# Altium schematic symbol library SchLib_Main.SchLib: 425 symbols (part 7 of 11)
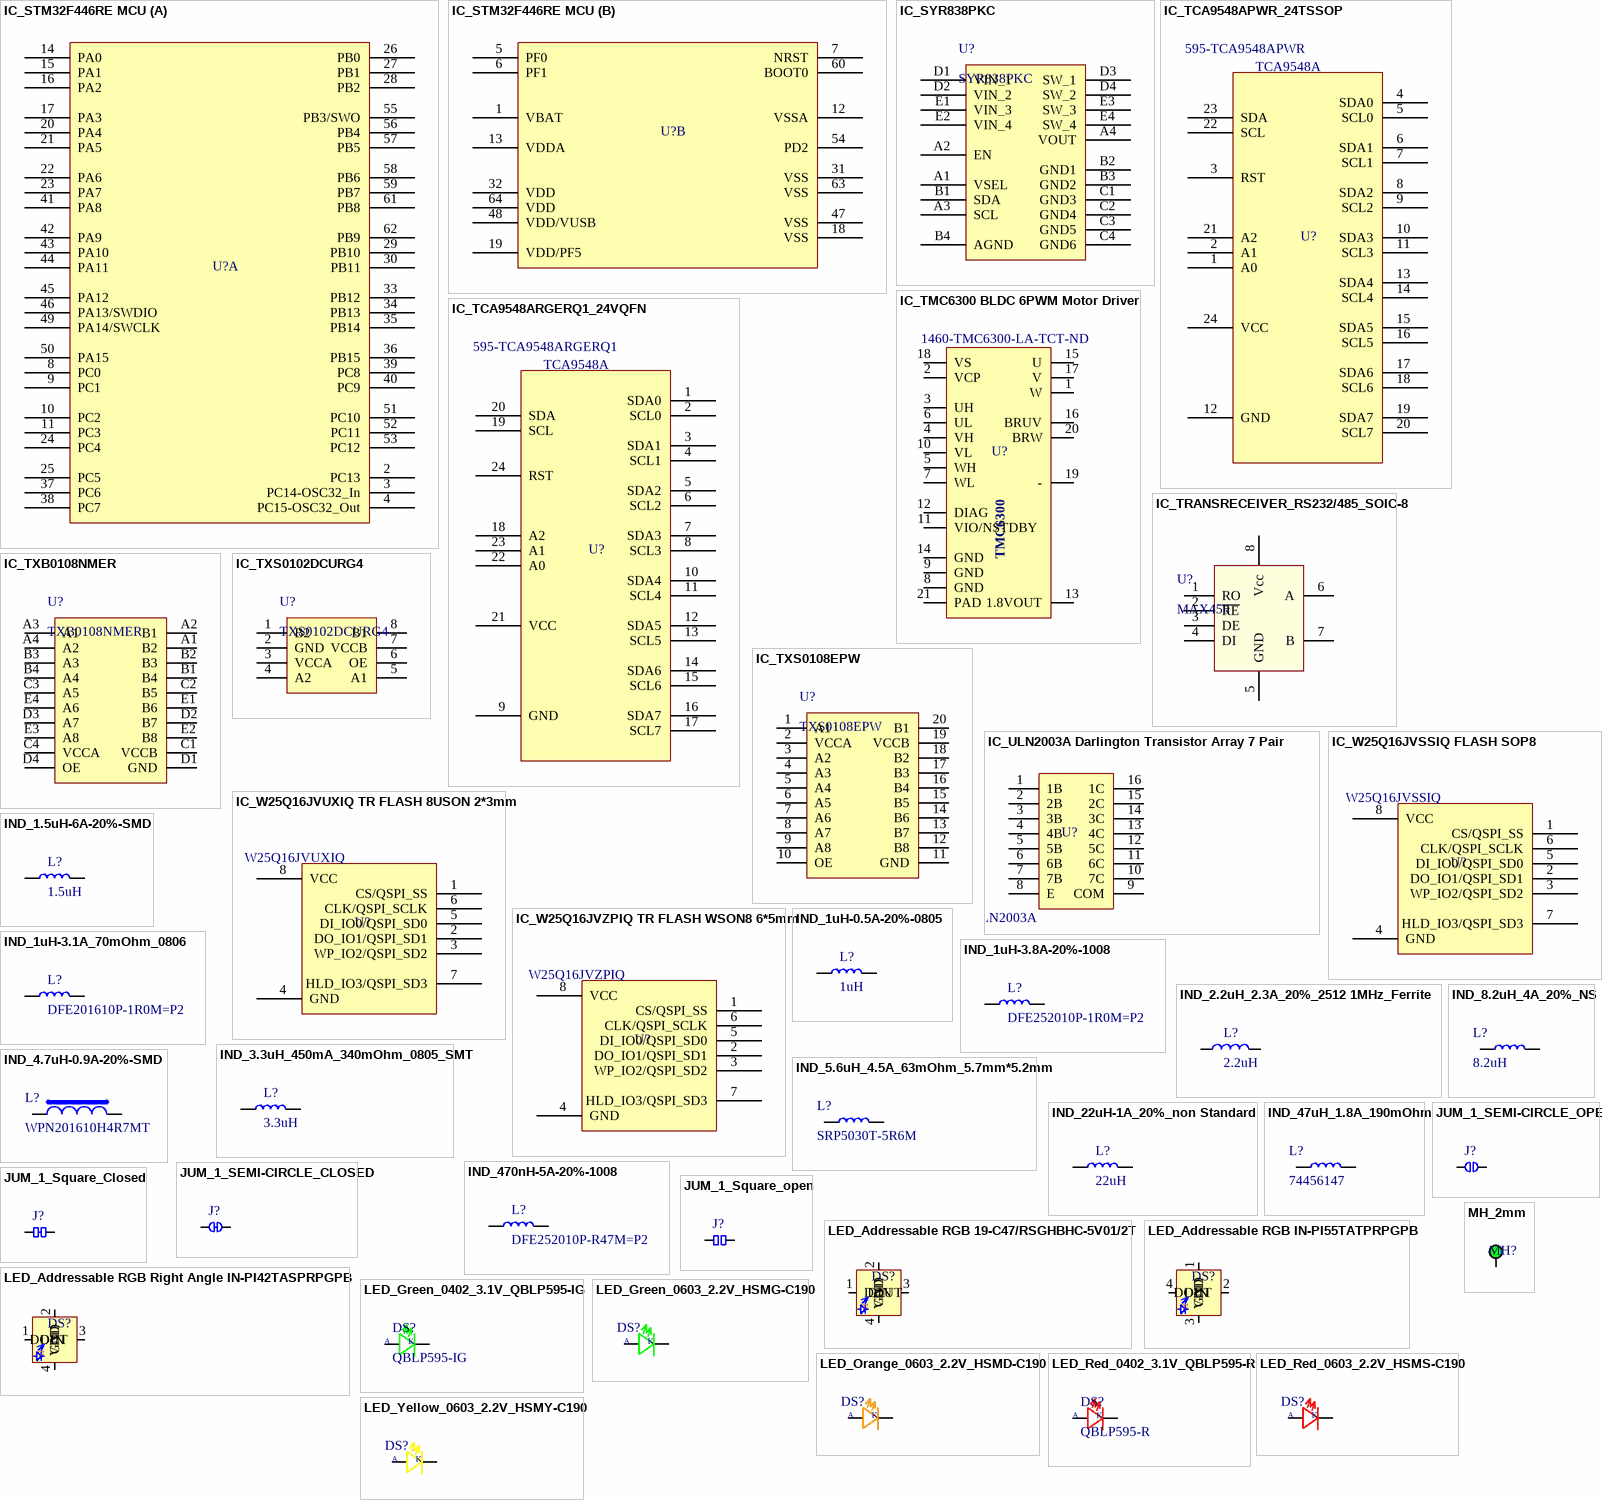
[diagram p22: symbols IC_STM32F446RE MCU to MH_2mm]

## IND_5.6uH_4.5A_63mOhm_5.7mm*5.2mm
designator L?, comment SRP5030T-5R6M
General Purpose Inductor, 5.6uH, 20%, 1 Element, Powdered Iron-Core, SMD, 2220; Manufacturer: Bourns; Core Material: Ferrite; DC Resistance (DCR): 63mR; Inductor Application: POWER INDUCTOR; Channels: 1; Max Current Rating: 4.25A; Shape/Size Description: RECTANGULAR PACKAGE; Shielding: Shielded; Test Frequency: 100kHz; Supplier: Digikey; Supplier Part Number: SRP5030T-5R6MCT-ND; Manufacturer Part Number: SRP5030T-5R6M; RoHS: Yes; Category: Fixed Inductors; Stock: 3265; Pricing: 1=1.36, 10=1.15, 25=1.0452, 50=0.9826, 100=0.8154, 250=0.75264, 500=0.71084, 1000=0.64812 (USD); Pins: 2; Terminal Finish: Tin; Min Operating Temperature: -40°C; Max Operating Temperature: 125°C; Tolerance: 20%; JESD-609 Code: e3; Inductance-Nom (L): 5.6uH; Inductor Type: GENERAL PURPOSE INDUCTOR; Surface Mount: Yes; Terminal Placement: Dual Ended; Termination: Wraparound; Reach SVHC Compliant: Yes; RoHS Compliant: Yes; ComponentLink1URL: https://datasheet.ciiva.com:443/pdfs/VipMasterIC/IC/BOUR/BOUR-S-A0006601856/BOUR-S-A0006601856-1.pdf?src-supplier=IHS+Markit; ComponentLink1Description: https://datasheet.ciiva.com:443/pdfs/VipMasterIC/IC/BOUR/BOUR-S-A0006601856/BOUR-S-A0006601856-1.pdf?src-supplier=IHS+Markit; ComponentLink2URL: https://datasheet.ciiva.com/17071/70281523-17071295.pdf?src-supplier=Allied+Electronics; ComponentLink2Description: https://datasheet.ciiva.com/17071/70281523-17071295.pdf?src-supplier=Allied+Electronics; ComponentLink3URL: https://datasheet.ciiva.com/28678/1698469-28678287.pdf?src-supplier=Element14; ComponentLink3Description: https://datasheet.ciiva.com/28678/1698469-28678287.pdf?src-supplier=Element14
footprint IND_6mm*6mm (SRP5030T-5R6M)
pins: 1, 2 1

## IND_8.2uH_4A_20%_NS
designator L?, comment 8.2uH
General Purpose Inductor, 8.2uH, 20%, 1 Element, Composite-Core, SMD, 2525; Manufacturer: Vishay Dale; Manufacturer Part Number: IHLP2525CZER8R2M01; Case/Size Code: 2525; DC Resistance (DCR): 68mR; Inductor Application: HIGH CURRENT INDUCTOR; Channels: 1; Max Current Rating: 4A; Shape/Size Description: RECTANGULAR PACKAGE; Shielding: Shielded; Test Frequency: 100kHz; Package Height: 3mm; Package Length: 6.86mm; Package Width: 6.47mm; Supplier: Digi-Key; Supplier Part Number: 541-1012-1-ND; RoHS: Yes; Category: Fixed Inductors; Stock: 34091; Pricing: 1=1.05, 10=0.887, 25=0.8064, 50=0.758, 100=0.6289, 250=0.58056, 500=0.5483, 1000=0.49991 (USD); Pins: 2; Core Material: Composite; Terminal Finish: Nickel; Min Operating Temperature: -55°C; Max Operating Temperature: 125°C; Tolerance: 20%; JESD-609 Code: e3; Construction: Shielded; Inductance-Nom (L): 8.2uH; Inductor Type: GENERAL PURPOSE INDUCTOR; Package Style: SMTMeter; Packaging: Tape and Reel; Surface Mount: Yes; Terminal Placement: Dual Ended; Termination: Wraparound; Reach SVHC Compliant: Yes; RoHS Compliant: Yes; ComponentLink1URL: https://datasheet.ciiva.com:443/pdfs/VipMasterIC/IC/VISH/VISH-S-A0003500153/VISH-S-A0003500153-1.pdf?src-supplier=IHS+Markit; ComponentLink1Description: https://datasheet.ciiva.com:443/pdfs/VipMasterIC/IC/VISH/VISH-S-A0003500153/VISH-S-A0003500153-1.pdf?src-supplier=IHS+Markit; ComponentLink2URL: https://datasheet.ciiva.com/11798/0900766b8102c934-11798421.pdf?src-supplier=Rs; ComponentLink2Description: https://datasheet.ciiva.com/11798/0900766b8102c934-11798421.pdf?src-supplier=Rs; ComponentLink3URL: https://datasheet.ciiva.com/3081/lp25cz01-3081990.pdf?src-supplier=Avnet; ComponentLink3Description: https://datasheet.ciiva.com/3081/lp25cz01-3081990.pdf?src-supplier=Avnet; ComponentLink4URL: https://datasheet.ciiva.com/16348/lp25cz01-16348924.pdf?src-supplier=Future+Electronics; ComponentLink4Description: https://datasheet.ciiva.com/16348/lp25cz01-16348924.pdf?src-supplier=Future+Electronics; ComponentLink5URL: https://datasheet.ciiva.com/8017/lp25cz01-8017605.pdf?src-supplier=Element14; ComponentLink5Description: https://datasheet.ciiva.com/8017/lp25cz01-8017605.pdf?src-supplier=Element14; ComponentLink6URL: https://datasheet.ciiva.com/46393/1913191-46393003.pdf?src-supplier=Element14; ComponentLink6Description: https://datasheet.ciiva.com/46393/1913191-46393003.pdf?src-supplier=Element14
pins: 1, 2 1

## IND_22uH-1A_20%_non Standard
designator L?, comment 22uH
General Purpose Inductor, 22uH, 20%, 1 Element, Nickel-zinc Ferrite-Core, SMD, 1816; Manufacturer: Wurth Electronics; Manufacturer Part Number: 744773122; Supplier 1: Rs; RoHS: Yes; Category: Fixed Inductors; Stock 1: 1; ComponentLink1URL: https://datasheet.ciiva.com/6700/744773122-6700341.pdf?src-supplier=Digi-Key; ComponentLink1Description: https://datasheet.ciiva.com/6700/744773122-6700341.pdf?src-supplier=Digi-Key; ComponentLink2URL: https://datasheet.ciiva.com/4954/744773122-30533-4954866.pdf?src-supplier=Mouser; ComponentLink2Description: https://datasheet.ciiva.com/4954/744773122-30533-4954866.pdf?src-supplier=Mouser; ComponentLink3URL: https://datasheet.ciiva.com/7892/1736335-7892856.pdf?src-supplier=Element14; ComponentLink3Description: https://datasheet.ciiva.com/7892/1736335-7892856.pdf?src-supplier=Element14; ComponentLink4URL: https://datasheet.ciiva.com/6700/744773122-6700343.pdf?src-supplier=Digi-Key; ComponentLink4Description: https://datasheet.ciiva.com/6700/744773122-6700343.pdf?src-supplier=Digi-Key; ComponentLink5URL: https://datasheet.ciiva.com/6700/744773122-6700345.pdf?src-supplier=Digi-Key; ComponentLink5Description: https://datasheet.ciiva.com/6700/744773122-6700345.pdf?src-supplier=Digi-Key; ComponentLink6URL: https://datasheet.ciiva.com/48690/001087838-da-01-ml-we-pd2-smd-speicherdrossel-s-744-de-en-48690549.pdf?src-supplier=Conrad; ComponentLink6Description: https://datasheet.ciiva.com/48690/001087838-da-01-ml-we-pd2-smd-speicherdrossel-s-744-de-en-48690549.pdf?src-supplier=Conrad
pins: 1, 2 1

## IND_47uH_1.8A_190mOhm
designator L?, comment 74456147
General Purpose Inductor, 47uH, 10%, 1 Element, Ferrite-Core, SMD, 5039; Manufacturer: Wurth Electronics; Case/Size Code: 5039; DC Resistance (DCR): 190mR; Inductor Application: POWER INDUCTOR; Channels: 1; Max Current Rating: 1.8A; Self Resonant Frequency: 12MHz; Shape/Size Description: RECTANGULAR PACKAGE; Shielding: Unshielded; Test Frequency: 100kHz; Package Height: 5mm; Package Length: 12.7mm; Package Width: 10mm; Supplier: Digikey; Supplier Part Number: 732-74456147CT-ND; Manufacturer Part Number: 74456147; RoHS: Yes; Category: Fixed Inductors; Stock: 2450; Pricing: 1=2.06, 10=1.97, 50=1.839, 100=1.708, 250=1.576 (USD); Pins: 2; Core Material: Ferrite; Terminal Finish: Copper; Min Operating Temperature: -40°C; Max Operating Temperature: 125°C; Tolerance: 10%; JESD-609 Code: e1; Construction: Unshielded; Inductance-Nom (L): 47uH; Inductor Type: GENERAL PURPOSE INDUCTOR; Package Style: SMTMeter; Packaging: Tape and Reel; Surface Mount: Yes; Terminal Placement: Dual Ended; Termination: One Surface; Reach SVHC Compliant: Yes; RoHS Compliant: Yes; ComponentLink1URL: https://datasheet.ciiva.com:443/pdfs/VipMasterIC/IC/MIDC/MIDC-S-A0001528382/MIDC-S-A0001527892-1.pdf?src-supplier=IHS+Markit; ComponentLink1Description: https://datasheet.ciiva.com:443/pdfs/VipMasterIC/IC/MIDC/MIDC-S-A0001528382/MIDC-S-A0001527892-1.pdf?src-supplier=IHS+Markit; ComponentLink2URL: https://datasheet.ciiva.com/1051/74456147-1051938.pdf?src-supplier=Digikey; ComponentLink2Description: https://datasheet.ciiva.com/1051/74456147-1051938.pdf?src-supplier=Digikey; ComponentLink3URL: https://datasheet.ciiva.com/11800/0900766b80bbd134-11800112.pdf?src-supplier=Rs; ComponentLink3Description: https://datasheet.ciiva.com/11800/0900766b80bbd134-11800112.pdf?src-supplier=Rs; ComponentLink4URL: https://datasheet.ciiva.com/7754/1735994-7754532.pdf?src-supplier=Element14; ComponentLink4Description: https://datasheet.ciiva.com/7754/1735994-7754532.pdf?src-supplier=Element14; ComponentLink5URL: https://datasheet.ciiva.com/7265/70054-7265056.pdf?src-supplier=Newark; ComponentLink5Description: https://datasheet.ciiva.com/7265/70054-7265056.pdf?src-supplier=Newark; ComponentLink6URL: https://datasheet.ciiva.com/1051/74456147-1051939.pdf?src-supplier=Digikey; ComponentLink6Description: https://datasheet.ciiva.com/1051/74456147-1051939.pdf?src-supplier=Digikey
footprint ind 14mm*14mm
pins: 1, 2 1

## IND_470nH-5A-20%-1008
designator L?, comment DFE252010P-R47M=P2
470nH Shielded Wirewound Inductor 5A 35mOhm Max 1008 (2520 Metric); Manufacturer: Murata Electronics; Manufacturer Part Number: DFE252010P-R47M=P2; Case/Package: 1008; Supplier-1: Digikey
pins: 1, 2 1

## JUM_1_SEMI-CIRCLE_CLOSED
designator J?  (value not drawn)  (net tie, no BOM)
Jumper - Short Circuit - Press Cut Open
footprint Jumper_Closed
pins: 1, 2

## JUM_1_SEMI-CIRCLE_OPEN
designator J?  (value not drawn)  (net tie, no BOM)
Jumper - Open Circuit - Solder to Close
footprint Jumper_Open
pins: 1, 2

## JUM_1_Square_Closed
designator J?  (value not drawn)  (net tie, no BOM)
footprint Jumper_square_Closed
pins: 1, 2

## JUM_1_Square_open
designator J?  (value not drawn)  (net tie, no BOM)
footprint Jumper_Square_Open
pins: 1, 2

## LED_Addressable RGB 19-C47/RSGHBHC-5V01/2T
designator DS?  (value not drawn)
LED Multi-Color Chip Brilliant Red/Blue/Brilliant Green 632nm/468nm/518nm 4-Pin Surface Mount T/R; Manufacturer: Everlight; Manufacturer Part Number: 19-C47/RSGHBHC-5V01/2T; Supplier 1: Digi-Key; RoHS: Yes; Category: LEDs; Stock 1: 328623; Pricing 1: 1=0.92, 10=0.597, 100=0.3914, 1000=0.309 (USD)
footprint LED_Addressable 19-C47/RSGHBHC-5V01/2T
pins: 1 DOUT, 2 VDD, 3 DIN, 4 GND
text: RGB; LED

## LED_Addressable RGB IN-PI55TATPRPGPB
designator DS?  (value not drawn)
5050 RGB LED 4-Pin with Integrated IC; Manufacturer: Inolux; Manufacturer Part Number: IN-PI55TATPRPGPB; Color: Blue,Green,Red; Interface: Serial; Number of LEDs: 1; Supplier 1: Digi-Key; RoHS: No; Category: LEDs; Stock 1: 26303; Pricing 1: 1=0.56, 10=0.368, 100=0.2436 (USD); Mount: Surface Mount; Packaging: Cut Tape; Series: -; Length: 5mm; Width: 5mm; ComponentLink1URL: http://www.inolux-corp.com/datasheet/SMDLED/Addressable%20LED/IN-PI55TAT(X)R(X)G(X)B_v1.1.pdf?src-supplier=Digi-Key; ComponentLink1Description: http://www.inolux-corp.com/datasheet/SMDLED/Addressable%20LED/IN-PI55TAT(X)R(X)G(X)B_v1.1.pdf?src-supplier=Digi-Key
footprint LED_Addressable IN-PI55TATPRPGPB (5.00mm L x 5.00mm W)
pins: 1 VDD, 2 DOUT, 3 GND, 4 DIN
text: RGB; LED

## LED_Addressable RGB Right Angle IN-PI42TASPRPGPB
designator DS?, comment IN-PI42TASPRPGPB  (value not drawn)
LED Tri-Color Blue/Green/Red 475nm/530nm/630nm; Manufacturer 1: Inolux; Color: Blue,Green,Red; Interface: Serial; Number of LEDs: 1; ComponentLink1URL: http://www.inolux-corp.com/datasheet/SMDLED/Addressable%20LED/IN-PI42TAS(X)R(X)G(X)B_v1.1.pdf?src-supplier=Digi-Key; ComponentLink1Description: http://www.inolux-corp.com/datasheet/SMDLED/Addressable%20LED/IN-PI42TAS(X)R(X)G(X)B_v1.1.pdf?src-supplier=Digi-Key; Supplier 1: Digi-Key; Manufacturer Part Number 1: IN-PI42TASPRPGPB; RoHS: No; Category: LEDs; Stock 1: 50264; Pricing 1: 1=0.72, 10=0.469, 100=0.307 (USD); Mount: Surface Mount; Packaging: Cut Tape; Series: -; Length: 4mm; Width: 1.5mm; Supplier Part Number 1: 1830-1206-1-ND
footprint LED_RIght-Angle_IN-PI42TASPRPGPB
pins: 1 DIN, 2 VDD, 3 DOUT, 4 GND
text: RGB; LED

## LED_Green_0402_3.1V_QBLP595-IG
designator DS?, comment QBLP595-IG
LED Uni-Color True Green 2-Pin Chip 0402(1006Metric) T/R; Manufacturer: QT-Brightek; Lens Color: Colorless; Lens Style: Flat; Lens Transparency: Clear; Luminous Intensity: 600mcd; Forward Voltage: 3.1V; Test Current: 20mA; Viewing Angle: 140°; Dominant Wavelength: 520nm; Lens Size: 0.5mm; Supplier 1: Digi-Key; Supplier Part Number 1: 1516-1216-1-ND; Manufacturer Part Number: QBLP595-IG; RoHS: Yes; Category: LEDs; Stock 1: 385550; Pricing 1: 1=0.39, 10=0.306, 100=0.1373, 500=0.12402, 1000=0.10187, 2000=0.08858 (USD); Mount: Surface Mount; Case/Package: 0402; Color: Green; Case Code (Imperial): 0402; Case Code (Metric): 1005; Packaging: Cut Tape; Series: QBLP595; Length: 1mm; Width: 0.5mm; Height: 0.6mm; RoHS Compliant: Yes; ComponentLink1URL: http://www.qt-brightek.com/datasheet/QBLP595 Series.pdf?src-supplier=Digi-Key; ComponentLink1Description: http://www.qt-brightek.com/datasheet/QBLP595 Series.pdf?src-supplier=Digi-Key
footprint LED_0402
pins: 1, 2
text: A; K

## LED_Green_0603_2.2V_HSMG-C190
designator DS?, comment HSMG-C190  (value not drawn)
Green 572nm LED Indication - Discrete 2.2V 0603 (1608 Metric); Manufacturer: Broadcom Avago; Supplier 1: Digi-Key; Supplier Part Number 1: 516-1425-1-ND; Manufacturer Part Number: HSMG-C190; RoHS: Yes; Category: LEDs; Stock 1: 262974; Pricing 1: 1=0.39, 10=0.254, 100=0.1696, 500=0.11732, 1000=0.09776, 2000=0.08799 (USD); ComponentLink1URL: https://datasheet.ciiva.com/15117/getdatasheetpartid-110413-15117483.pdf?src-supplier=Verical; ComponentLink1Description: https://datasheet.ciiva.com/15117/getdatasheetpartid-110413-15117483.pdf?src-supplier=Verical; ComponentLink2URL: https://datasheet.ciiva.com/11773/0900766b80ad69c9-11773861.pdf?src-supplier=Rs; ComponentLink2Description: https://datasheet.ciiva.com/11773/0900766b80ad69c9-11773861.pdf?src-supplier=Rs; ComponentLink3URL: https://datasheet.ciiva.com/31395/1487342-31395358.pdf?src-supplier=Farnell; ComponentLink3Description: https://datasheet.ciiva.com/31395/1487342-31395358.pdf?src-supplier=Farnell; ComponentLink4URL: https://datasheet.ciiva.com/29280/180659-da-01-en-chip-led-hsmg-c190-gelb-gruen-29280615.pdf?src-supplier=Conrad; ComponentLink4Description: https://datasheet.ciiva.com/29280/180659-da-01-en-chip-led-hsmg-c190-gelb-gruen-29280615.pdf?src-supplier=Conrad; ComponentLink5URL: https://datasheet.ciiva.com/14172/swseriehsmx-c150toc190-e-14172173.pdf?src-supplier=Distrelec; ComponentLink5Description: https://datasheet.ciiva.com/14172/swseriehsmx-c150toc190-e-14172173.pdf?src-supplier=Distrelec; ComponentLink6URL: https://datasheet.ciiva.com/46426/313031-46426519.pdf?src-supplier=Element14; ComponentLink6Description: https://datasheet.ciiva.com/46426/313031-46426519.pdf?src-supplier=Element14; ComponentLink7URL: https://datasheet.ciiva.com/46426/313031-46426520.pdf?src-supplier=Element14; ComponentLink7Description: https://datasheet.ciiva.com/46426/313031-46426520.pdf?src-supplier=Element14
footprint LED_0603 (Chip Capacitor 0603, 2-Leads, Body 1.68x0.88mm, IPC Medium Density)
pins: 1, 2
text: A; K

## LED_Orange_0603_2.2V_HSMD-C190
designator DS?, comment HSMD-C190  (value not drawn)
Orange 604nm LED Indication - Discrete 2.2V 0603 (1608 Metric); Manufacturer: Broadcom Avago; Supplier 1: Digi-Key; Supplier Part Number 1: 516-2489-1-ND; Manufacturer Part Number: HSMD-C190; RoHS: Yes; Category: LEDs; Stock 1: 51960; Pricing 1: 1=0.41, 10=0.27, 100=0.1804, 500=0.1248, 1000=0.104, 2000=0.0936 (USD)
footprint LED_0603 (Chip Capacitor 0603, 2-Leads, Body 1.68x0.88mm, IPC Medium Density)
pins: 1, 2
text: A; K

## LED_Red_0402_3.1V_QBLP595-R
designator DS?, comment QBLP595-R
LED Uni-Color Red 2-Pin Chip 0402(1006Metric) T/R; Manufacturer 1: QT-Brightek; Lens Color: Colorless; Lens Style: Flat; Lens Transparency: Clear; Luminous Intensity: 120mcd; Forward Voltage: 2V; Test Current: 20mA; Viewing Angle: 140°; Dominant Wavelength: 620nm; Lens Size: 0.5mm; ComponentLink1URL: http://www.qt-brightek.com/datasheet/QBLP595 Series.pdf?src-supplier=Digi-Key; ComponentLink1Description: http://www.qt-brightek.com/datasheet/QBLP595 Series.pdf?src-supplier=Digi-Key; Supplier 1: Digi-Key; Manufacturer Part Number 1: QBLP595-R; RoHS: Yes; Category: LEDs; Stock 1: 48340; Pricing 1: 1=0.34, 10=0.272, 100=0.1221, 500=0.1103, 1000=0.0906, 2000=0.07878 (USD); Mount: Surface Mount; Case/Package: 0402; Color: Red; Case Code (Imperial): 0402; Case Code (Metric): 1005; Packaging: Cut Tape; Series: QBLP595; Length: 1mm; Width: 0.5mm; Height: 0.6mm; RoHS Compliant: Yes; Supplier Part Number 1: 1516-1217-1-ND
footprint LED_0402
pins: 1, 2
text: A; K

## LED_Red_0603_2.2V_HSMS-C190
designator DS?, comment HSMS-C190  (value not drawn)
LED Low-Power Uni-Color Red 630nm 2.1V 2-Pin Chip LED T/R; Manufacturer: Broadcom Avago; Supplier 1: Digi-Key; Supplier Part Number 1: 516-1422-1-ND; Manufacturer Part Number: HSMS-C190; RoHS: Yes; Category: LEDs; Stock 1: 190765; Pricing 1: 1=0.41, 10=0.272, 100=0.1813, 500=0.12542, 1000=0.10452, 2000=0.09407 (USD)
footprint LED_0603 (Chip Capacitor 0603, 2-Leads, Body 1.68x0.88mm, IPC Medium Density)
pins: 1, 2
text: A; K

## LED_Yellow_0603_2.2V_HSMY-C190
designator DS?, comment HSMY-C190  (value not drawn)
LED Uni-Color Yellow 589nm 2-Pin Chip LED T/R; Manufacturer: Broadcom Avago; Supplier 1: Digi-Key; Supplier Part Number 1: 516-1424-1-ND; Manufacturer Part Number: HSMY-C190; RoHS: Yes; Category: LEDs; Stock 1: 286358; Pricing 1: 1=0.41, 10=0.27, 100=0.1804, 500=0.1248, 1000=0.104, 2000=0.0936 (USD); ComponentLink1URL: https://datasheet.ciiva.com/11774/0900766b80ad69c9-11774266.pdf?src-supplier=Rs; ComponentLink1Description: https://datasheet.ciiva.com/11774/0900766b80ad69c9-11774266.pdf?src-supplier=Rs; ComponentLink2URL: https://datasheet.ciiva.com/34302/1557097-34302483.pdf?src-supplier=Jameco; ComponentLink2Description: https://datasheet.ciiva.com/34302/1557097-34302483.pdf?src-supplier=Jameco; ComponentLink3URL: https://datasheet.ciiva.com/15117/getdatasheetpartid-118294-15117593.pdf?src-supplier=Verical; ComponentLink3Description: https://datasheet.ciiva.com/15117/getdatasheetpartid-118294-15117593.pdf?src-supplier=Verical; ComponentLink4URL: https://datasheet.ciiva.com/29280/180660-da-01-en-chip-led-hsmy-c190-gelb-29280613.pdf?src-supplier=Conrad; ComponentLink4Description: https://datasheet.ciiva.com/29280/180660-da-01-en-chip-led-hsmy-c190-gelb-29280613.pdf?src-supplier=Conrad; ComponentLink5URL: https://datasheet.ciiva.com/14172/swseriehsmx-c150toc190-e-14172172.pdf?src-supplier=Distrelec; ComponentLink5Description: https://datasheet.ciiva.com/14172/swseriehsmx-c150toc190-e-14172172.pdf?src-supplier=Distrelec
footprint LED_0603 (Chip Capacitor 0603, 2-Leads, Body 1.68x0.88mm, IPC Medium Density)
pins: 1, 2
text: A; K

## MH_2mm
designator MH?  (value not drawn)  (no BOM)
Mounting Hole 2mm
pins: 1

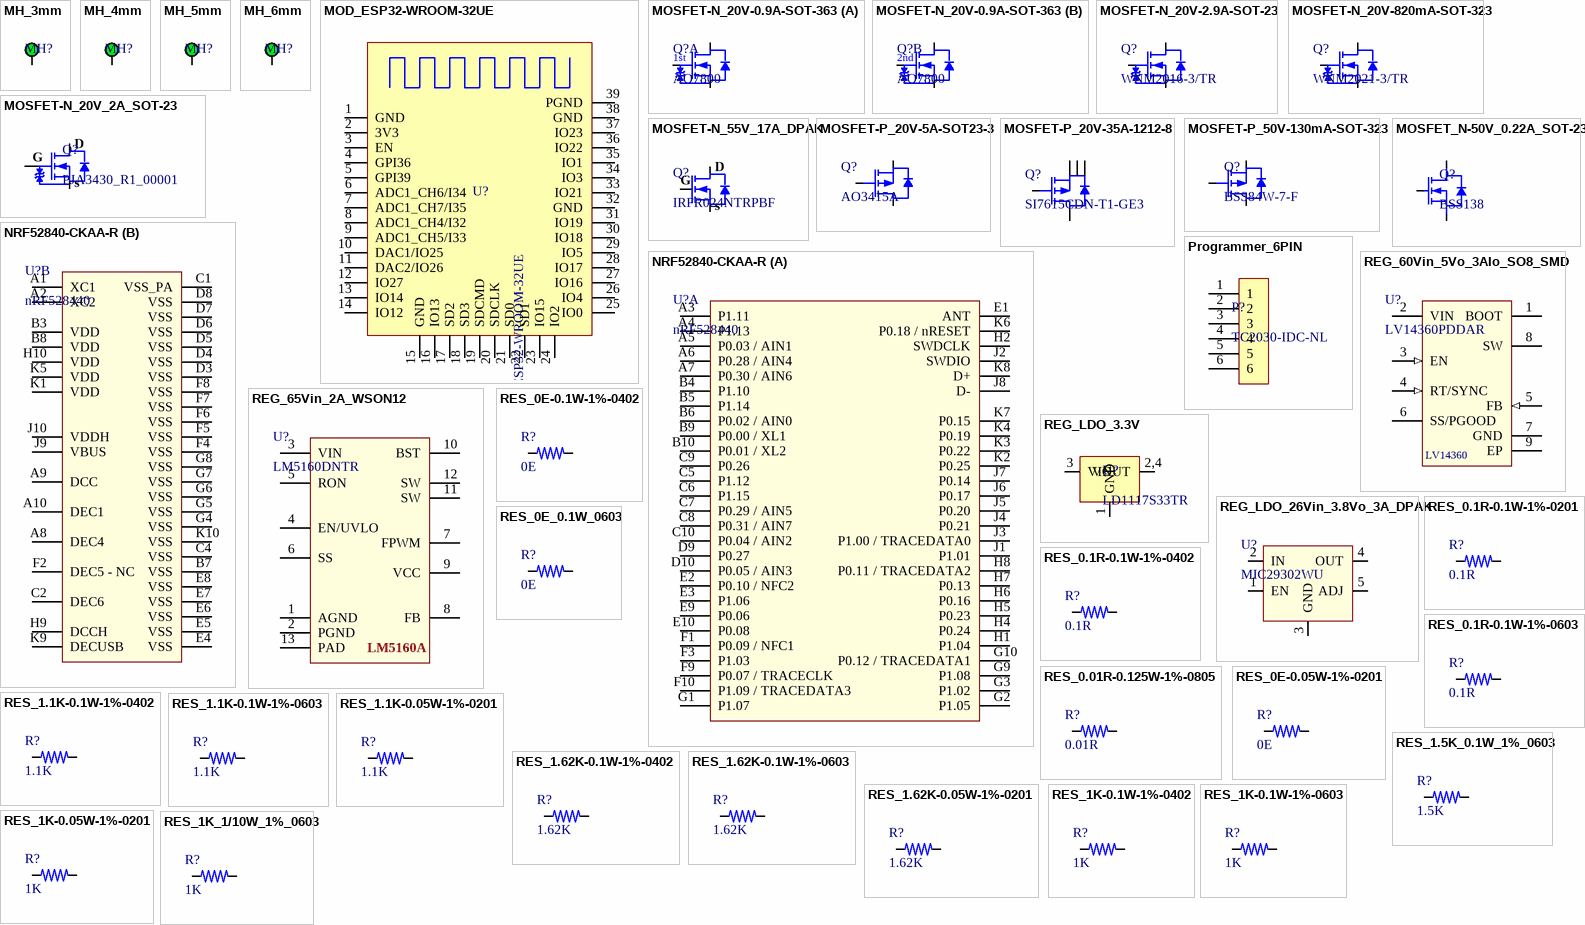
[diagram p11: symbols MH_3mm to RES_1K_1/10W_1%_0603]

## MH_3mm
designator MH?  (value not drawn)  (no BOM)
Mounting Hole 3mm
footprint MH_3mm
pins: 1

## MH_4mm
designator MH?  (value not drawn)  (no BOM)
Mounting Hole 4mm
pins: 1

## MH_5mm
designator MH?  (value not drawn)  (no BOM)
Mounting Hole 5mm
pins: 1

## MH_6mm
designator MH?  (value not drawn)  (no BOM)
Mounting Hole 6mm
pins: 1

## MOD_ESP32-WROOM-32UE
designator U?  (value not drawn)
Part No. ESP32-WROOM-32UE-N4 / Bluetooth, WiFi 802.11b/g/n, Bluetooth v4.2 +EDR, Class 1, 2 and 3 Transceiver Module 2.4GHz ~ 2.5GHz Antenna Not Included, U.FL Surface Mount
footprint MOD-ESP32-WROOM_32UE
pins: 1 GND, 2 3V3, 3 EN, 4 GPI36, 5 GPI39, 6 ADC1_CH6/I34, 7 ADC1_CH7/I35, 8 ADC1_CH4/I32, 9 ADC1_CH5/I33, 10 DAC1/IO25, 11 DAC2/IO26, 12 IO27, 13 IO14, 14 IO12, 15 GND, 16 IO13, 17 SD2, 18 SD3, 19 SDCMD, 20 SDCLK, 21 SD0, 22 SD1, 23 IO15, 24 IO2, 25 IO0, 26 IO4, 27 IO16, 28 IO17, 29 IO5, 30 IO18, 31 IO19, 32 GND, 33 IO21, 34 IO3, 35 IO1, 36 IO22, 37 IO23, 38 GND, 39 PGND
text: ESP32-WROOM-32UE

## MOSFET-N_20V-0.9A-SOT-363
designator Q?, comment AO7800
DualNChannel 20V 900mA 900mV @ 250uA 300mΩ @ 900mA,4.5V 300mW SC-70-6(SOT-363) MOSFET RoHS /; Manufacturer: Alpha & Omega Semicon; Mnaufacturer Part Number: AO7800; Case/Package: SC-70-6(SOT-363); Supplier-1: LCSC
footprint SOT363-6 (SOT363)
part A pins: 1 S1, 2 G1, 6 D1
part B pins: 3 D2, 4 S2, 5 G2
part A text: 1st
part B text: 2nd

## MOSFET-N_20V-2.9A-SOT-23
designator Q?, comment WNM2016-3/TR
N Channel 20V 2.9A 1V @ 250uA 47mΩ @ 3.6A,4.5V 700mW SOT-23(SOT-23-3) MOSFET RoHS /; Manufacturer: WILLSEMI(Will Semicon); Manufacturer Part Number: WNM2016-3/TR; Case/Package: SOT-23(SOT-23-3); Supplier-1: LCSC
footprint SOT 23-3 (Case: SOT23)
pins: 1 G, 2 S, 3 D

## MOSFET-N_20V-820mA-SOT-323
designator Q?, comment WNM2021-3/TR
N Channel 20V 820mA 850mV @ 250uA 310mΩ @ 550mA,4.5V 310mW SOT-323(SC-70) MOSFET RoHS /; Manufacturer: WILLSEMI(Will Semicon); Manufacturer Part Number: WNM2021-3/TR; Case/Package: SOT-323(SC-70); Supplier-1: LCSC
footprint SOT-323-3 (SOT Package)
pins: 1 G, 2 S, 3 D

## MOSFET-N_20V_2A_SOT-23
designator Q?, comment PJA3430_R1_00001
N-Channel 20 V 2A (Ta) 1.25W (Ta) Surface Mount SOT-23; Manufacturer 1: Pan Jit; Supplier 1: Digi-Key; Manufacturer Part Number 1: PJA3430_R1_00001; RoHS: Yes; Category: Uncategorized; Stock 1: 58790; Pricing 1: 1=0.33, 10=0.229, 100=0.112, 500=0.0934, 1000=0.0649 (USD); Supplier Part Number 1: 3757-PJA3430_R1_00001CT-ND
footprint SOT23-3 SS8050 (SOT23, 3-Leads, Body 2.90x2.40mm, Pitch 0.95mm, IPC Medium Density)
pins: 1 G, 2 S, 3 D
text: s

## MOSFET-N_55V_17A_DPAK
designator Q?, comment IRFR024NTRPBF
Mosfet, Power; N-ch; Vdss 55V; Rds(on) 0.075 Ohm; Id 17A; D-pak (TO-252AA); Pd 45W; Manufacturer: Infineon; Nominal Vgs: 4V; Number of Elements: 1NUMBER; Fall Time: 27ns; Element Configuration: 5460ElementConfiguration; On-State Resistance: 75mR; Supplier 1: Digikey; Manufacturer Part Number: IRFR024NTRPBF; RoHS: Yes; Category: MOSFETs; Stock 1: 180216; Pricing 1: 1=0.89, 10=0.77, 100=0.5331, 500=0.44546, 1000=0.37911 (USD); Current Rating: 17A; Voltage Rating (DC): 55V; Package Quantity: 2000NUMBER; Resistance: 75mR; Radiation Hardening: 5898YesNo; Supplier Part Number 1: IRFR024NPBFCT-ND
footprint DPAK
pins: 1 G, 2 D, 3 S
text: s

## MOSFET-P_20V-5A-SOT23-3
designator Q?, comment AO3415A
P-Channel 20V 5A (Ta) 1.5W (Ta) Surface Mount SOT-23-3L; Manufacturer: Alpha & Omega Semiconductor Inc.; Manufacturer Part Number: AO3415A; Case/Package: SOT-23-3; Supplier-1: Digikey
footprint SOT 23-3 (Case: SOT23)
pins: 1 G, 2 S, 3 D

## MOSFET-P_20V-35A-1212-8
designator Q?, comment SI7615CDN-T1-GE3
P-Channel 20V 35A (Tc) 33W (Tc) Surface Mount PowerPAK® 1212-8 /; Manufacturer: Vishay Siliconix; Manufacturer Part Number: SI7615CDN-T1-GE3; Case/Package: PowerPAK® 1212-8; Supplier-1: Digikey
footprint PowerPAK_1212-8_SMD (Mosfet)
pins: 1 S, 2 S, 3 S, 4 G, 5 D

## MOSFET-P_50V-130mA-SOT-323
designator Q?, comment BSS84W-7-F
P-Channel 50V 130mA (Ta) 200mW (Ta) Surface Mount SOT-323; Manufacturer: Diodes Incorporated; Manufacturer Part Number: BSS84W-7-F; Case/Package: SOT-323; Supplier-1: Digikey
footprint SOT-323-3 (SOT Package)
pins: 1 G, 2 S, 3 D

## MOSFET_N-50V_0.22A_SOT-23
designator Q?, comment BSS138
Trans MOSFET N Channel 50 Volt 0.22A 3-Pin SOT-23 Tape and Reel; Manufacturer: ON Semiconductor / Fairchild; Continuous Drain Current (ID): 220mA; Rds On Max: 3.5R; Max Power Dissipation: 360mW; Drain to Source Voltage (Vdss): 50V; Input Capacitance: 27pF; Turn-Off Delay Time: 20ns; Gate to Source Voltage (Vgs): 20V; Turn-On Delay Time: 2.5ns; Polarity: N-CHANNEL; Threshold Voltage: 1.3V; Element Configuration: Single; Drain-source On Resistance-Max: 6R; Rise Time: 9ns; Supplier 1: Digi-Key; Manufacturer Part Number: BSS138; RoHS: Yes; Category: MOSFETs; Stock 1: 54; Pricing 1: 1=0.35, 10=0.243, 100=0.1187, 500=0.09896, 1000=0.06877 (USD); Mount: Surface Mount; Case/Package: SOT-23; Number of Pins: 3; Weight: 0.03g; Min Operating Temperature: -55°C; Max Operating Temperature: 150°C; Packaging: Tape and Reel; Package Quantity: 1; Series: -; Drain to Source Resistance: 3.5R; Power Dissipation: 360mW; Voltage Rating (DC): 50V; Current Rating: 220mA; Drain to Source Breakdown Voltage: 50V; Nominal Vgs: 1.3V; Termination: SMD/SMT; Dual Supply Voltage: 50V; Fall Time: 9ns; Length: 2.92mm; Width: 1.3mm; Height: 0.93mm; Radiation Hardening: No; RoHS Compliant: Yes; Lead Free: Lead Free; Reach SVHC Compliant: No; Supplier Part Number 1: BSS138CT-ND
footprint SOT23
pins: 1 G, 2 S, 3 D

## NRF52840-CKAA-R
designator U?, comment nRF528440
Bluetooth v5.0 (BLE) SMART SOC IoT 2Mbps 3V 73-Pin AQFN EP T/R; Manufacturer: Nordic Semiconductor; Manufacturer Part Number: NRF52840-CKAA-R; Interface: 39,40,224,1518,1532Interface; Current - Receiving: 11.1mA; Current - Transmitting: 32.7mA; Max Frequency: 2.485GHz; Max Supply Voltage: 5.5V; Min Supply Voltage: 1.7V; Nominal Supply Current: 4.8mA; Number of ADC Channels: 8NUMBER; Number of GPIO: 48NUMBER; Supplier 1: Digikey; RoHS: No; Category: RF Receivers, Transceivers; Stock 1: 46759; Pricing 1: 1=5.18, 100=4.42, 500=3.84, 1000=3.52002 (USD); Min Operating Temperature: -40°C; Max Operating Temperature: 85°C; Data Rate: 2Mbps; Supplier Part Number 1: 4823-NRF52840-CKAA-RCT-ND
footprint WLCSP
part A pins: A3 P1.11, A4 P1.13, A5 P0.03 / AIN1, A6 P0.28 / AIN4, A7 P0.30 / AIN6, B4 P1.10, B5 P1.14, B6 P0.02 / AIN0, B9 P0.00 / XL1, B10 P0.01 / XL2, C5 P1.12, C6 P1.15, C7 P0.29 / AIN5, C8 P0.31 / AIN7, C9 P0.26, C10 P0.04 / AIN2, D9 P0.27, D10 P0.05 / AIN3, E1 ANT, E2 P0.10 / NFC2, E3 P1.06, E9 P0.06, E10 P0.08, F1 P0.09 / NFC1, F3 P1.03, F9 P0.07 / TRACECLK, F10 P1.09 / TRACEDATA3, G1 P1.07, G2 P1.05, G3 P1.02, G9 P1.08, G10 P0.12 / TRACEDATA1, H1 P1.04, H2 SWDCLK, H4 P0.24, H5 P0.23, H6 P0.16, H7 P0.13, H8 P0.11 / TRACEDATA2, J1 P1.01, J2 SWDIO, J3 P1.00 / TRACEDATA0, J4 P0.21, J5 P0.20, J6 P0.17, J7 P0.14, J8 D-, K2 P0.25, K3 P0.22, K4 P0.19, K6 P0.18 / nRESET, K7 P0.15, K8 D+
part B pins: A1 XC1, A2 XC2, A8 DEC4, A9 DCC, A10 DEC1, B3 VDD, B7 VSS, B8 VDD, C1 VSS_PA, C2 DEC6, C4 VSS, D3 VSS, D4 VSS, D5 VSS, D6 VSS, D7 VSS, D8 VSS, E4 VSS, E5 VSS, E6 VSS, E7 VSS, E8 VSS, F2 DEC5 - NC, F4 VSS, F5 VSS, F6 VSS, F7 VSS, F8 VSS, G4 VSS, G5 VSS, G6 VSS, G7 VSS, G8 VSS, H9 DCCH, H10 VDD, J9 VBUS, J10 VDDH, K1 VDD, K5 VDD, K9 DECUSB, K10 VSS

## Programmer_6PIN
designator P?, comment TC2030-IDC-NL  (no BOM)
footprint TC2030_Programmer
pins: 1, 2, 3, 4, 5, 6

## REG_60Vin_5Vo_3AIo_SO8_SMD
designator U?, comment LV14360PDDAR
Buck Switching Regulator IC Positive Adjustable 0.8V 1 Output 3A 8-PowerSOIC (0.154", 3.90mm Width); Manufacturer: Texas Instruments; Supplier: Digi-Key; Supplier Part Number: 296-LV14360PDDARDKR-ND; Manufacturer Part Number: LV14360PDDAR; RoHS: Yes; Category: Voltage Regulators - Switching; Pricing: 1=2.94, 10=2.644, 25=2.4996, 100=2.1664, 250=2.05536, 500=1.84426, 1000=1.5554 (USD); RoHS Compliant: Yes
footprint SOIC8_WithPad (LV14360)
pins: 1 BOOT (power), 2 VIN (power), 3 EN (in), 4 RT/SYNC (in), 5 FB (in), 6 SS/PGOOD, 7 GND (power), 8 SW (power), 9 EP (power)
text: LV14360

## REG_65Vin_2A_WSON12
designator U?, comment LM5160DNTR
Switching Regulator, 2A, 1000kHz Switching Freq-Max, PDSO12; Manufacturer: Texas Instruments; Package Body Material: Plastic; Control Technique: PULSE WIDTH MODULATION; Max Supply Voltage: 65V; Min Input Voltage: 4.5V; Nominal Supply Voltage: 24V; Channels: 1; Max Output current: 2.875A; Switcher Configuration: BUCK; Supplier: Mouser; Supplier Part Number: 595-LM5160DNTR; Manufacturer Part Number: LM5160DNTR; RoHS: Yes; Category: Voltage Regulators - Switching; Stock: 1; Pricing: 1=5.57, 10=5, 50=5, 100=4.1, 1000=2.94, 10000=2.79 (USD); Case/Package: HVSON; Pins: 12; Package Shape: Square; Terminal Finish: Tin; Min Operating Temperature: -40°C; Max Operating Temperature: 125°C; JESD-609 Code: e3; Throw Configuration: SWITCHING REGULATOR; Moisture Sensitivity Level: 1; Package Style: SMALL OUTLINE, HEAT SINK/SLUG, VERY THIN PROFILEMeter; Peak Reflow Temperature (Cel): 260°C; Surface Mount: Yes; Terminal Form: No Lead; Terminal Position: DUAL; Length: 4mm; Width: 4mm; Height - Seated (Max): 0.8mm; Terminal Pitch: 0.5mm; Temperature Grade: AUTOMOTIVE; Reach SVHC Compliant: Yes; RoHS Compliant: Yes; ComponentLink1URL: https://www.ti.com:443/lit/ds/symlink/lm5160.pdf?src-supplier=IHS+Markit; ComponentLink1Description: https://www.ti.com:443/lit/ds/symlink/lm5160.pdf?src-supplier=IHS+Markit; ComponentLink2URL: http://www.ti.com/general/docs/suppproductinfo.tsp?distId=10&amp;gotoUrl=http%3A%2F%2Fwww.ti.com%2Flit%2Fgpn%2Flm5160&src-supplier=Digikey; ComponentLink2Description: http://www.ti.com/general/docs/suppproductinfo.tsp?distId=10&amp;gotoUrl=http%3A%2F%2Fwww.ti.com%2Flit%2Fgpn%2Flm5160&src-supplier=Digikey; ComponentLink3URL: http://www.ti.com/lit/pdf/szzy004?src-supplier=Digikey; ComponentLink3Description: http://www.ti.com/lit/pdf/szzy004?src-supplier=Digikey; ComponentLink4URL: http://www.ti.com/general/docs/lit/getliterature.tsp?genericPartNumber=LM5160A&&fileType=pdf&src-supplier=Avnet; ComponentLink4Description: http://www.ti.com/general/docs/lit/getliterature.tsp?genericPartNumber=LM5160A&&fileType=pdf&src-supplier=Avnet
footprint WSON12 (0.5mm pitch)
pins: 1 AGND, 2 PGND, 3 VIN, 4 EN/UVLO, 5 RON, 6 SS, 7 FPWM, 8 FB, 9 VCC, 10 BST, 11 SW, 12 SW, 13 PAD
text: LM5160A

## REG_LDO_3.3V
designator U?, comment LD1117S33TR
LDO Regulator Pos 3.3V 1.3A 4-Pin(3+Tab) SOT-223 T/R; Manufacturer: STMicroelectronics; Number of Outputs: 1; Max Input Voltage: 15V; Max Power Dissipation: 12W; Quiescent Current: 10mA; Polarity: Positive; Accuracy: 1%; Output Type: Fixed; Dropout Voltage: 1.1V; Output Current: 800mA; Min Input Voltage: 4.75V; Input Bias Current: 5mA; Power Supply Rejection Ratio (PSRR): 75dB; Supplier 1: Digi-Key; Manufacturer Part Number: LD1117S33TR; RoHS: Yes; Category: Voltage Regulators - Linear; Stock 1: 18488; Pricing 1: 1=0.66, 10=0.567, 25=0.5292, 100=0.4232, 250=0.393, 500=0.33254, 1000=0.25697 (USD); Mount: Surface Mount; Case/Package: SOT-223; Number of Pins: 4; Min Operating Temperature: 0°C; Max Operating Temperature: 125°C; Max Output Current: 1.3A; Output Voltage: 3.3V; Packaging: Tape and Reel; Max Supply Voltage: 15V; Min Supply Voltage: 4.75V; Package Quantity: 2500; Nominal Output Voltage: 3.3V; Number of Regulators: 1; Power Dissipation: 12W; Min Output Voltage: 3.3V; Max Output Voltage: 3.3V; Termination: SMD/SMT; Voltage: 3.3V; Output Voltage Accuracy: 1%; Series: -; Output Configuration: Positive; Length: 6.5mm; Width: 3.5mm; Height: 1.8mm; Radiation Hardening: No; Reach SVHC Compliant: No; Lead Free: Lead Free; RoHS Compliant: Yes; ComponentLink1URL: https://datasheet.ciiva.com/19478/1390240-19478097.pdf?src-supplier=Jameco; ComponentLink1Description: https://datasheet.ciiva.com/19478/1390240-19478097.pdf?src-supplier=Jameco; ComponentLink2URL: https://datasheet.ciiva.com/1511/1776449-1511573.pdf?src-supplier=Element14; ComponentLink2Description: https://datasheet.ciiva.com/1511/1776449-1511573.pdf?src-supplier=Element14; ComponentLink3URL: https://datasheet.ciiva.com/7992/1776449-7992621.pdf?src-supplier=Element14; ComponentLink3Description: https://datasheet.ciiva.com/7992/1776449-7992621.pdf?src-supplier=Element14; ComponentLink4URL: https://datasheet.ciiva.com/28652/1776449-28652462.pdf?src-supplier=Element14; ComponentLink4Description: https://datasheet.ciiva.com/28652/1776449-28652462.pdf?src-supplier=Element14; ComponentLink5URL: https://datasheet.ciiva.com/2041/cd00000544-2041942.pdf?src-supplier=Digi-Key; ComponentLink5Description: https://datasheet.ciiva.com/2041/cd00000544-2041942.pdf?src-supplier=Digi-Key; ComponentLink6URL: https://datasheet.ciiva.com/2041/cd00000544-2041941.pdf?src-supplier=Digi-Key; ComponentLink6Description: https://datasheet.ciiva.com/2041/cd00000544-2041941.pdf?src-supplier=Digi-Key; ComponentLink7URL: https://datasheet.ciiva.com/2041/cd00000544-2041943.pdf?src-supplier=Digi-Key; ComponentLink7Description: https://datasheet.ciiva.com/2041/cd00000544-2041943.pdf?src-supplier=Digi-Key; ComponentLink8URL: https://datasheet.ciiva.com/16396/cd00000544-16396459.pdf?src-supplier=Future+Electronics; ComponentLink8Description: https://datasheet.ciiva.com/16396/cd00000544-16396459.pdf?src-supplier=Future+Electronics; Supplier Part Number 1: 497-1242-1-ND
footprint SOT223 (SOT223, 4-Leads, Body 6.50x7.00mm (avg), Pitch 2.30mm, IPC Medium Density)
pins: 1 GND, 2,4 VOUT, 3 VIN

## REG_LDO_26Vin_3.8Vo_3A_DPAK
designator U?, comment MIC29302WU
IC REG LDO ADJ 3A TO263-5; Manufacturer: Microchip; Manufacturer Part Number: MIC29302WU-TR; Supplier: Digi-Key; Supplier Part Number: 576-1125-1-ND; RoHS: Yes; Category: Voltage Regulators - Linear; Stock: 15465; Pricing: 1=2.89, 25=2.4, 100=2.18 (USD); ComponentLink1URL: https://datasheet.ciiva.com/23772/1572633-23772885.pdf?src-supplier=Newark; ComponentLink1Description: https://datasheet.ciiva.com/23772/1572633-23772885.pdf?src-supplier=Newark; ComponentLink2URL: https://datasheet.ciiva.com/16296/mic29150-16296190.pdf?src-supplier=Future+Electronics; ComponentLink2Description: https://datasheet.ciiva.com/16296/mic29150-16296190.pdf?src-supplier=Future+Electronics; ComponentLink3URL: https://datasheet.ciiva.com/15200/getdatasheetpartid-143209-15200663.pdf?src-supplier=Verical; ComponentLink3Description: https://datasheet.ciiva.com/15200/getdatasheetpartid-143209-15200663.pdf?src-supplier=Verical
footprint DDPAK_TO236-5 (MIC29302WU)
pins: 1 EN, 2 IN, 3 GND, 4 OUT, 5 ADJ

## RES_0.1R-0.1W-1%-0201
designator R?, comment 0.1R
100 mOhms ±1% 0.1W, 1/10W Chip Resistor 0201 (0603 Metric) Current Sense Thick Film /; Manufacturer: Rohm Semiconductor; Manufacturer Part Number: UCR006YVPFLR100; Casse/Package: 0201; Supplier-1: Digikey
footprint RES_0201
pins: 1, 2

## RES_0.1R-0.1W-1%-0402
designator R?, comment 0.1R
100 mOhms ±1% 0.1W, 1/10W Chip Resistor 0402 (1005 Metric) Current Sense, Moisture Resistant Thick Film /; Manufacturer: Samsung Electro-Mechanics; Manufacturer Part Number: RUT1005FR100CS; Casse/Package: 0402; Supplier-1: Digikey
footprint RES_0402
pins: 1, 2

## RES_0.1R-0.1W-1%-0603
designator R?, comment 0.1R
100 mOhms ±1% 0.1W, 1/10W Chip Resistor 0603 (1608 Metric) Automotive AEC-Q200, Current Sense Thick Film /; Manufacturer: Panasonic Electronic Components; Manufacturer Part Number: ERJ-3RSFR10V; Casse/Package: 0603; Supplier-1: Digikey
footprint RES_0603 (CASE: 0603)
pins: 1, 2

## RES_0.01R-0.125W-1%-0805
designator R?, comment 0.01R
RES 0.01 OHM 1% 1/8W 0805; Manufacturer: Yageo; Manufacturer Part Number: RL0805FR-070R01L; Supplier 1: Avnet; RoHS: Yes; Category: Chip SMD Resistors; Stock 1: 4907; Pricing 1: 1=0.704, 25=0.254, 50=0.208, 100=0.164 (USD); ComponentLink1URL: http://www.mouser.com/ds/2/447/PYu-RL_521_RoHS_L_5-2927.pdf?src-supplier=Mouser; ComponentLink1Description: http://www.mouser.com/ds/2/447/PYu-RL_521_RoHS_L_5-2927.pdf?src-supplier=Mouser; ComponentLink2URL: http://www.yageo.com/exep/pages/download/literatures/R-chip_current%20sensor_20140512.pdf?src-supplier=Digi-Key; ComponentLink2Description: http://www.yageo.com/exep/pages/download/literatures/R-chip_current%20sensor_20140512.pdf?src-supplier=Digi-Key; ComponentLink3URL: https://www.yageo.com/upload/media/product/productsearch/datasheet/rchip/PYu-RL_Group_521_RoHS_L_2.pdf?src-supplier=Digi-Key; ComponentLink3Description: https://www.yageo.com/upload/media/product/productsearch/datasheet/rchip/PYu-RL_Group_521_RoHS_L_2.pdf?src-supplier=Digi-Key; ComponentLink4URL: https://datasheet.octopart.com/RL0805FR-070R01L-Yageo-datasheet-137700928.pdf?src-supplier=Future+Electronics; ComponentLink4Description: https://datasheet.octopart.com/RL0805FR-070R01L-Yageo-datasheet-137700928.pdf?src-supplier=Future+Electronics; ComponentLink5URL: http://www.yageo.com/documents/recent/PYu-RL_521_RoHS_L_5.pdf?src-supplier=Avnet; ComponentLink5Description: http://www.yageo.com/documents/recent/PYu-RL_521_RoHS_L_5.pdf?src-supplier=Avnet
footprint RES_0805
pins: 1, 2

## RES_0E-0.1W-1%-0402
designator R?, comment 0E
0 Ohms Jumper 0.1W, 1/10W Chip Resistor 0402 (1005 Metric) Automotive AEC-Q200 Thick Film; Manufacturer: Panasonic Electronic Components; Manufacturer Part Number: ERJ-2GE0R00X; Case/Package: 0402; Supplier-1: Digikey
footprint RES_0402
pins: 1, 2

## RES_0E-0.05W-1%-0201
designator R?, comment 0E
0 Ohms Jumper 0.05W, 1/20W Chip Resistor 0201 (0603 Metric) Automotive AEC-Q200 Thick Film; Manufacturer: Bourns Inc.; Manufacturer Part Number: CR0201AJ/-000GLF; Case/Package: 0201; Supplier-1: Digikey
footprint RES_0201
pins: 1, 2

## RES_0E_0.1W_0603
designator R?, comment 0E
Metal Glaze/thick Film, 0.1W, 0ohm, Surface Mount, 0603; Manufacturer: Yageo; Manufacturer Part Number: RC0603JR-070RL; Power: 100mW; Rated Temperature: 70°C; Value: 0R; Package Height: 0.45mm; Package Length: 1.6mm; Package Width: 0.8mm; Supplier: Digi-Key; Supplier Part Number: 311-0.0GRCT-ND; RoHS: Yes; Category: Chip SMD Resistors; Stock: 1005063; Pricing: 1=0.1, 10=0.015, 25=0.0112, 50=0.0086, 100=0.006, 250=0.0048, 500=0.00386, 1000=0.00284 (USD); Mounting Technology: Surface Mount; Pins: 2; Package Shape: Rectangular; Case/Package: 0603; Terminal Finish: Nickel; Min Operating Temperature: -55°C; Max Operating Temperature: 155°C; JESD-609 Code: e3; Resistor Type: FIXED RESISTOR; Construction: Chip; Package Style: SMTMeter; Packaging: Tape and Reel; Technology: METAL GLAZE/THICK FILM; Termination: Wraparound; Reach SVHC Compliant: Yes; RoHS Compliant: Yes; ComponentLink1URL: https://datasheet.ciiva.com:443/pdfs/VipMasterIC/IC/YAGO/YAGO-S-A0008145938/YAGO-S-A0008145938-1.pdf?src-supplier=IHS+Markit; ComponentLink1Description: https://datasheet.ciiva.com:443/pdfs/VipMasterIC/IC/YAGO/YAGO-S-A0008145938/YAGO-S-A0008145938-1.pdf?src-supplier=IHS+Markit
footprint RES_0603
pins: 1, 2

## RES_1.1K-0.1W-1%-0402
designator R?, comment 1.1K
1.1 kOhms ±1% 0.1W, 1/10W Chip Resistor 0402 (1005 Metric) Automotive AEC-Q200 Thick Film /; Manufacturer: Panasonic Electronic Components; Manufacturer Part Number: ERJ-2RKF1101X; Case/Package: 0402; Supplier-1: Digikey
footprint RES_0402
pins: 1, 2

## RES_1.1K-0.1W-1%-0603
designator R?, comment 1.1K
47 kOhms ±1% 0.1W, 1/10W Chip Resistor 0603 (1608 Metric) Thick Film /; Manufacturer: Yageo; Manufacturer Part Number: RC0603FR-0747KL; Case/Package: 0603; Supplier-1: Digikey
footprint RES_0603 (CASE: 0603)
pins: 1, 2

## RES_1.1K-0.05W-1%-0201
designator R?, comment 1.1K
1.1 kOhms ±1% 0.05W, 1/20W Chip Resistor 0201 (0603 Metric) Automotive AEC-Q200 Thick Film /; Manufacturer: Panasonic Electronic Components; Manufacturer Part Number: ERJ-1GNF1101C; Case/Package: 0201; Supplier-1: Digikey
footprint RES_0201
pins: 1, 2

## RES_1.5K_0.1W_1%_0603
designator R?, comment 1.5K
Fixed Resistor, Metal Glaze/thick Film, 0.1W, 1500ohm, 75V, 1% +/-Tol, 100ppm/Cel, Surface Mount, 0603; Manufacturer: Yageo; Manufacturer Part Number: RC0603FR-131K5L; Additional Feature: LASER TRIMMABLE; Power: 100mW; Rated Temperature: 70°C; Value: 1.5kR; Temperature Coefficient: 100ppm/°C; Package Height: 0.45mm; Package Length: 1.6mm; Package Width: 0.8mm; Supplier: Digikey; Supplier Part Number: 13-RC0603FR-131K5LTR-ND; RoHS: Yes; Category: Chip SMD Resistors; Stock: 60000; Pricing: 20000=0.00297, 40000=0.00278, 60000=0.00257, 100000=0.00232 (USD); Mounting Technology: Surface Mount; Pins: 2; Package Shape: Rectangular; Case/Package: 0603; Terminal Finish: Nickel; Min Operating Temperature: -55°C; Max Operating Temperature: 155°C; Tolerance: 1%; JESD-609 Code: e3; Resistor Type: FIXED RESISTOR; Construction: Chip; Package Style: SMTMeter; Packaging: Tape and Reel; Technology: METAL GLAZE/THICK FILM; Termination: Wraparound; Working Voltage: 75V; Reach SVHC Compliant: Yes; RoHS Compliant: Yes; ComponentLink1URL: https://datasheet.ciiva.com:443/pdfs/VipMasterIC/IC/YAGO/YAGO-S-A0008145938/YAGO-S-A0008145938-1.pdf?src-supplier=IHS+Markit; ComponentLink1Description: https://datasheet.ciiva.com:443/pdfs/VipMasterIC/IC/YAGO/YAGO-S-A0008145938/YAGO-S-A0008145938-1.pdf?src-supplier=IHS+Markit; ComponentLink2URL: http://www.mouser.com/ds/2/447/RC0603-272842.pdf?src-supplier=Mouser; ComponentLink2Description: http://www.mouser.com/ds/2/447/RC0603-272842.pdf?src-supplier=Mouser; ComponentLink3URL: http://www.yageo.com/pdf/PYu-RC0603_51_RoHS_L_4.pdf?src-supplier=Avnet; ComponentLink3Description: http://www.yageo.com/pdf/PYu-RC0603_51_RoHS_L_4.pdf?src-supplier=Avnet; ComponentLink4URL: https://datasheet.octopart.com/RC0603FR-131K5L-Yageo-datasheet-164759695.pdf?src-supplier=Future+Electronics; ComponentLink4Description: https://datasheet.octopart.com/RC0603FR-131K5L-Yageo-datasheet-164759695.pdf?src-supplier=Future+Electronics
footprint RES_0603
pins: 1, 2

## RES_1.62K-0.1W-1%-0402
designator R?, comment 1.62K
1.62 kOhms ±1% 0.1W, 1/10W Chip Resistor 0402 (1005 Metric) Automotive AEC-Q200 Thick Film /; Manufacturer: Panasonic Electronic Components; Manufacturer Part Number: ERJ-2RKF1621X; Case/Package: 0402; Supplier-1: Digikey
footprint RES_0402
pins: 1, 2

## RES_1.62K-0.1W-1%-0603
designator R?, comment 1.62K
1.62 kOhms ±1% 0.1W, 1/10W Chip Resistor 0603 (1608 Metric) Automotive AEC-Q200 Thick Film /; Manufacturer: Stackpole Electronics Inc; Manufacturer Part Number: RMCF0603FT1K62; Case/Package: 0603; Supplier-1: Digikey
footprint RES_0603 (CASE: 0603)
pins: 1, 2

## RES_1.62K-0.05W-1%-0201
designator R?, comment 1.62K
1.62 kOhms ±1% 0.05W, 1/20W Chip Resistor 0201 (0603 Metric) Automotive AEC-Q200 Thick Film /; Manufacturer: Panasonic Electronic Components; Manufacturer Part Number: ERJ-1GNF1621C; Case/Package: 0201; Supplier-1: Digikey
footprint RES_0201
pins: 1, 2

## RES_1K-0.1W-1%-0402
designator R?, comment 1K
1 kOhms ±1% 0.1W, 1/10W Chip Resistor 0402 (1005 Metric) Anti-Sulfur Thin Film /; Manufacturer: Vishay Beyschlag/Draloric/BC Components; Manufacturer Part Number: MCS04020C1001FE000; Case/Package: 0402; Supplier-1: Digikey
footprint RES_0402
pins: 1, 2

## RES_1K-0.1W-1%-0603
designator R?, comment 1K
1 kOhms ±1% 0.1W, 1/10W Chip Resistor 0603 (1608 Metric) Thick Film /; Manufacturer: Yageo; Manufacturer Part Number: RC0603FR-071KL; Case/Package: 0603; Supplier-1: Digikey
footprint RES_0603 (CASE: 0603)
pins: 1, 2

## RES_1K-0.05W-1%-0201
designator R?, comment 1K
1 kOhms ±1% 0.05W, 1/20W Chip Resistor 0201 (0603 Metric) Thick Film /; Manufacturer: Yageo; Manufacturer Part Number: RC0201FR-071KL; Case/Package: 0201; Supplier-1: Digikey
footprint RES_0201
pins: 1, 2

## RES_1K_1/10W_1%_0603
designator R?, comment 1K
SMD Chip Resistor, 1 kOhm, ± 1%, 100 mW, 0603 [1608 Metric], Thick Film, General Purpose; Manufacturer: Yageo; Manufacturer Part Number: RC0603FR-071KL; Resistance: 1kR; Temperature Coefficient: 100ppm/°C; Power Rating: 100mW; Voltage Rating: 50V; Supplier 1: Future Electronics; RoHS: Yes; Category: Chip SMD Resistors; Stock 1: 10830000; Pricing 1: 5000=0.0014, 50000=0.0013, 200000=0.0012, 625000=0.0012, 2000000=0.0011 (USD); Case/Package: 0603; Contact Plating: Tin,Matte; Case Code (Imperial): 0603; Case Code (Metric): 1608; Size Code: 0603; Min Operating Temperature: -55°C; Max Operating Temperature: 155°C; Tolerance: 1%; Resistor Type: Thick Film; Packaging: Tape and Reel; Termination: SMD/SMT; Features: Moisture Resistant; Series: RC; Max Power Dissipation: 100mW; Number of Terminations: 2; Technology: THICK FILM; Resistance Tolerance: 1%; Construction: Rectangular; Length: 1.6mm; Height: 0.45mm; Depth: 0.8mm; Reach SVHC Compliant: No; Lead Free: Lead Free; Military Standard: Not; RoHS Compliant: Yes
footprint RES_0603
pins: 1, 2

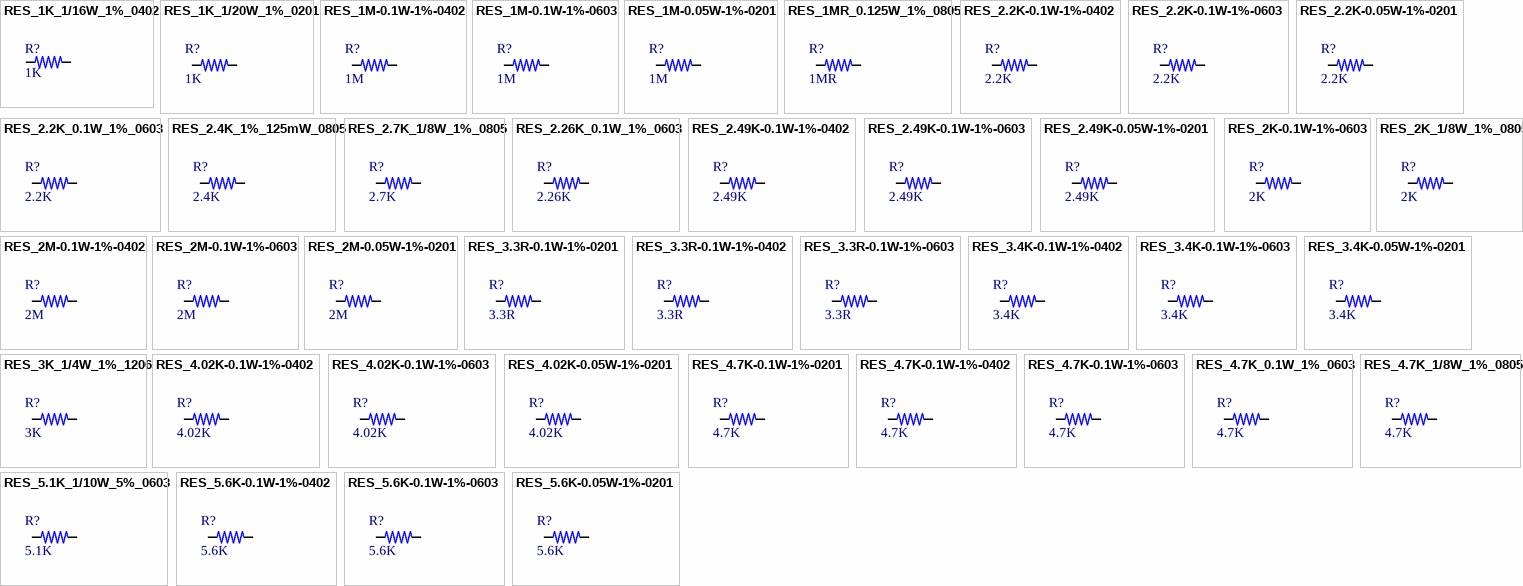
[diagram p12: symbols RES_1K_1/16W_1%_0402 to RES_5.6K-0.05W-1%-0201]

## RES_1K_1/16W_1%_0402
designator R?, comment 1K
SMD Chip Resistor, 1 kOhm, ± 1%, 63 mW, 0402 [1005 Metric], Thick Film, General Purpose; Manufacturer 1: Yageo; Manufacturer Part Number 1: RC0402FR-071KL; Resistance: 1kR; Temperature Coefficient: 100ppm/°C; Voltage Rating (DC): 50V; Power Rating: 62.5mW; Max Power Dissipation: 63mW; ComponentLink1URL: https://datasheet.ciiva.com/11819/0900766b80c66297-11819477.pdf?src-supplier=Rs; ComponentLink1Description: https://datasheet.ciiva.com/11819/0900766b80c66297-11819477.pdf?src-supplier=Rs; ComponentLink2URL: https://datasheet.ciiva.com/7983/1018594-7983502.pdf?src-supplier=Element14; ComponentLink2Description: https://datasheet.ciiva.com/7983/1018594-7983502.pdf?src-supplier=Element14; ComponentLink3URL: https://datasheet.ciiva.com/22747/1018594-22747513.pdf?src-supplier=Element14; ComponentLink3Description: https://datasheet.ciiva.com/22747/1018594-22747513.pdf?src-supplier=Element14; ComponentLink4URL: https://datasheet.ciiva.com/12666/pyu-rc0402-51-rohs-l-6-r-12666741.pdf?src-supplier=Mouser; ComponentLink4Description: https://datasheet.ciiva.com/12666/pyu-rc0402-51-rohs-l-6-r-12666741.pdf?src-supplier=Mouser; ComponentLink5URL: https://datasheet.ciiva.com/7849/1018594-7849869.pdf?src-supplier=Element14; ComponentLink5Description: https://datasheet.ciiva.com/7849/1018594-7849869.pdf?src-supplier=Element14; ComponentLink6URL: https://datasheet.ciiva.com/7849/1018594-7849871.pdf?src-supplier=Element14; ComponentLink6Description: https://datasheet.ciiva.com/7849/1018594-7849871.pdf?src-supplier=Element14; ComponentLink7URL: https://datasheet.ciiva.com/17063/pyu-rc0402-51-rohs-l-6-r-17063193.pdf?src-supplier=Future+Electronics; ComponentLink7Description: https://datasheet.ciiva.com/17063/pyu-rc0402-51-rohs-l-6-r-17063193.pdf?src-supplier=Future+Electronics; Supplier 1: Digi-Key; RoHS: Yes; Category: Chip SMD Resistors; Stock 1: 25075192; Pricing 1: 1=0.1, 10=0.014, 50=0.0084, 100=0.007, 500=0.00464, 1000=0.00396, 5000=0.00282 (USD); Case/Package: 0402; Number of Pins: 2; Case Code (Imperial): 0402; Case Code (Metric): 1005; Size Code: 0402; Min Operating Temperature: -55°C; Max Operating Temperature: 155°C; Resistor Type: Thick Film; Tolerance: 1%; Packaging: Tape and Reel; Voltage Rating: 50V; Termination: SMD/SMT; Features: Moisture Resistant; Series: RC; Number of Terminations: 2; Resistance Tolerance: 1%; Construction: Rectangular; Technology: THICK FILM; Length: 1mm; Width: 0.5mm; Height: 0.32mm; Depth: 0.5mm; Reach SVHC Compliant: No; Lead Free: Lead Free; RoHS Compliant: Yes; Military Standard: Not; Supplier Part Number 1: 311-1.00KLRCT-ND
footprint RES_0402
pins: 1, 2

## RES_1K_1/20W_1%_0201
designator R?, comment 1K
SMD Chip Resistor, 1 kOhm, ± 1%, 50 mW, 0201 [0603 Metric], Thick Film, General Purpose; Manufacturer: Yageo; Manufacturer Part Number: RC0201FR-071KL; Resistance: 1kR; Temperature Coefficient: 200ppm/°C; Power Rating: 50mW; Voltage Rating: 25V; Supplier 1: Future Electronics; RoHS: Yes; Category: Chip SMD Resistors; Stock 1: 7500000; Pricing 1: 10000=0.0012, 50000=0.0012, 250000=0.0011, 750000=0.0011, 2000000=0.001 (USD); Case/Package: 0201; Contact Plating: Tin,Matte; Case Code (Metric): 0603; Case Code (Imperial): 0201; Min Operating Temperature: -55°C; Max Operating Temperature: 125°C; Tolerance: 1%; Resistor Type: Thick Film; Package Quantity: 10000; Packaging: Tape and Reel; Number of Terminations: 2; Termination: SMD/SMT; Max Power Dissipation: 50mW; Working Voltage: 25V; Features: Moisture Resistant; Series: RC; Resistance Tolerance: 1%; Technology: THICK FILM; Construction: Rectangular; Length: 0.024inch; Width: 0.012inch; Height: 0.01inch; Depth: 0.3mm; Military Standard: Not; Lead Free: Lead Free; RoHS Compliant: Yes; Reach SVHC Compliant: Unknown; ComponentLink1URL: https://datasheet.ciiva.com/7672/1563626-7672204.pdf?src-supplier=Element14; ComponentLink1Description: https://datasheet.ciiva.com/7672/1563626-7672204.pdf?src-supplier=Element14; ComponentLink2URL: https://datasheet.ciiva.com/22698/1563626-22698505.pdf?src-supplier=Element14; ComponentLink2Description: https://datasheet.ciiva.com/22698/1563626-22698505.pdf?src-supplier=Element14; ComponentLink3URL: https://datasheet.ciiva.com/29721/pyu-r-int-thick-7-29721196.pdf?src-supplier=Digi-Key; ComponentLink3Description: https://datasheet.ciiva.com/29721/pyu-r-int-thick-7-29721196.pdf?src-supplier=Digi-Key; ComponentLink4URL: https://datasheet.ciiva.com/29721/pyu-r-int-thick-7-29721195.pdf?src-supplier=Digi-Key; ComponentLink4Description: https://datasheet.ciiva.com/29721/pyu-r-int-thick-7-29721195.pdf?src-supplier=Digi-Key; ComponentLink5URL: https://datasheet.ciiva.com/8896/pyu-rc0201-51-rohs-l-8-8896174.pdf?src-supplier=Avnet; ComponentLink5Description: https://datasheet.ciiva.com/8896/pyu-rc0201-51-rohs-l-8-8896174.pdf?src-supplier=Avnet
footprint RES_0201
pins: 1, 2

## RES_1M-0.1W-1%-0402
designator R?, comment 1M
1 MOhms ±1% 0.1W, 1/10W Chip Resistor 0402 (1005 Metric) Anti-Sulfur Thin Film /; Manufacturer: Vishay Beyschlag/Draloric/BC Components; Manufacturer Part Number: MCS04020C1004FE000; Case/Package: 0402; Supplier-1: Digikey
footprint RES_0402
pins: 1, 2

## RES_1M-0.1W-1%-0603
designator R?, comment 1M
1 MOhms ±1% 0.1W, 1/10W Chip Resistor 0603 (1608 Metric) Thick Film /; Manufacturer: Yageo; Manufacturer Part Number: RC0603FR-071ML; Case/Package: 0603; Supplier-1: Digikey
footprint RES_0603 (CASE: 0603)
pins: 1, 2

## RES_1M-0.05W-1%-0201
designator R?, comment 1M
1 MOhms ±1% 0.05W, 1/20W Chip Resistor 0201 (0603 Metric) Thick Film /; Manufacturer: Yageo; Manufacturer Part Number: RC0201FR-071ML; Case/Package: 0201; Supplier-1: Digikey
footprint RES_0201
pins: 1, 2